# EAGLE library part MMBT3906DW1T1 (library Discrete)
On-Semiconductor Dual General purpose transistor
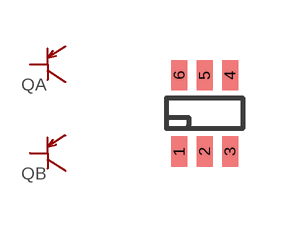
[diagram p4: symbol with the pads of SOT-363; footprint SOT-363]

Designator prefix Q; gates A=PNP B=PNP

## MMBT3906DW1T1  [SOT-363]
1  A:E
2  A:B  in
3  B:C
4  B:E
5  B:B  in
6  A:C

## Footprint SOT-363 (pad centres in mm)
smd 0.4 x 0.762: 1 -0.635,-0.953; 2 0,-0.953; 3 0.635,-0.953; 4 0.635,0.953; 5 0,0.953; 6 -0.635,0.953